# EAGLE library part 68715014022 (library Eagle_FPC_CONNECTOR_AND_FFC_CAB (rev18c))
WR-FPC 0.5mm SMT ZIF Horizontal Top Contact, 50 Pins=>Code : Con_FPC_ZIF_0.50_68715014022 <http://katalog.we-online.de/media/images/eican/Con_FPC_ZIF_0.50_6871xx14022_pf2.jpg> Details see: http://katalog.we-online.de/en/em/687_1xx_140_22 Created 2014-07-09, Karrer Zheng 2014 (C) Würth Elektronik
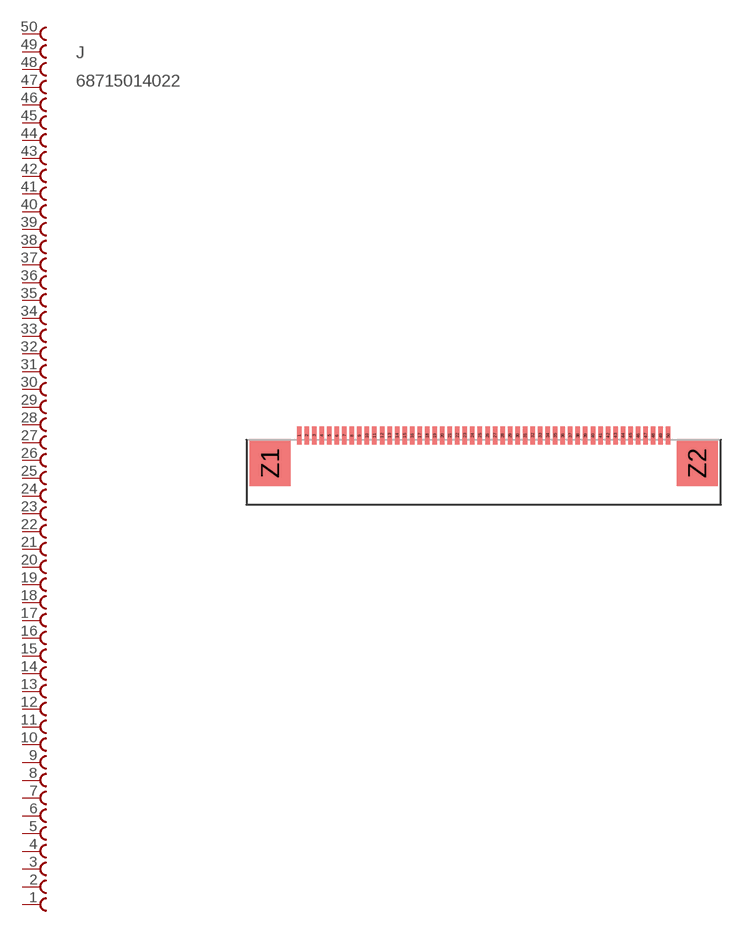
[diagram p36: symbol with the pads of 68715014022; footprint 68715014022]

Designator prefix J

## 68715014022  [68715014022]
1  50  pas
2  49  pas
3  48  pas
4  47  pas
5  46  pas
6  45  pas
7  44  pas
8  43  pas
9  42  pas
10  41  pas
11  40  pas
12  39  pas
13  38  pas
14  37  pas
15  36  pas
16  35  pas
17  34  pas
18  33  pas
19  32  pas
20  31  pas
21  30  pas
22  29  pas
23  28  pas
24  27  pas
25  26  pas
26  25  pas
27  24  pas
28  23  pas
29  22  pas
30  21  pas
31  20  pas
32  19  pas
33  18  pas
34  17  pas
35  16  pas
36  15  pas
37  14  pas
38  13  pas
39  12  pas
40  11  pas
41  10  pas
42  9  pas
43  8  pas
44  7  pas
45  6  pas
46  5  pas
47  4  pas
48  3  pas
49  2  pas
50  1  pas

## Footprint 68715014022 (pad centres in mm)
WR-FPC 0.5mm SMT ZIF Horizontal Top Contact, 50 Pins
smd 0.3 x 1.2: 1 -12.25,1.86; 2 -11.75,1.86; 3 -11.25,1.86; 4 -10.75,1.86; 5 -10.25,1.86; 6 -9.75,1.86; 7 -9.25,1.86; 8 -8.75,1.86; 9 -8.25,1.86; 10 -7.75,1.86; 11 -7.25,1.86; 12 -6.75,1.86; 13 -6.25,1.86; 14 -5.75,1.86; 15 -5.25,1.86; 16 -4.75,1.86; 17 -4.25,1.86; 18 -3.75,1.86; 19 -3.25,1.86; 20 -2.75,1.86; 21 -2.25,1.86; 22 -1.75,1.86; 23 -1.25,1.86; 24 -0.75,1.86; 25 -0.25,1.86; 26 0.25,1.86; 27 0.75,1.86; 28 1.25,1.86; 29 1.75,1.86; 30 2.25,1.86; 31 2.75,1.86; 32 3.25,1.86; 33 3.75,1.86; 34 4.25,1.86; 35 4.75,1.86; 36 5.25,1.86; 37 5.75,1.86; 38 6.25,1.86; 39 6.75,1.86; 40 7.25,1.86; 41 7.75,1.86; 42 8.25,1.86; 43 8.75,1.86; 44 9.25,1.86; 45 9.75,1.86; 46 10.25,1.86; 47 10.75,1.86; 48 11.25,1.86; 49 11.75,1.86; 50 12.25,1.86
smd 2.7 x 3: Z1 -14.18,0; Z2 14.18,0